# Altium footprint library custom_components.PcbLib: 30 footprints (part 2 of 2)
Each footprint in its own frame and in the unit in brackets; x right, y up, seen from the top. Pads: shape width x height; smd on the part's side, far side on the other; paste and mask are expansions set on the pad; w line width, h text height; cw(c..) or ccw(c..) is an arc to the next point about the centre after c.
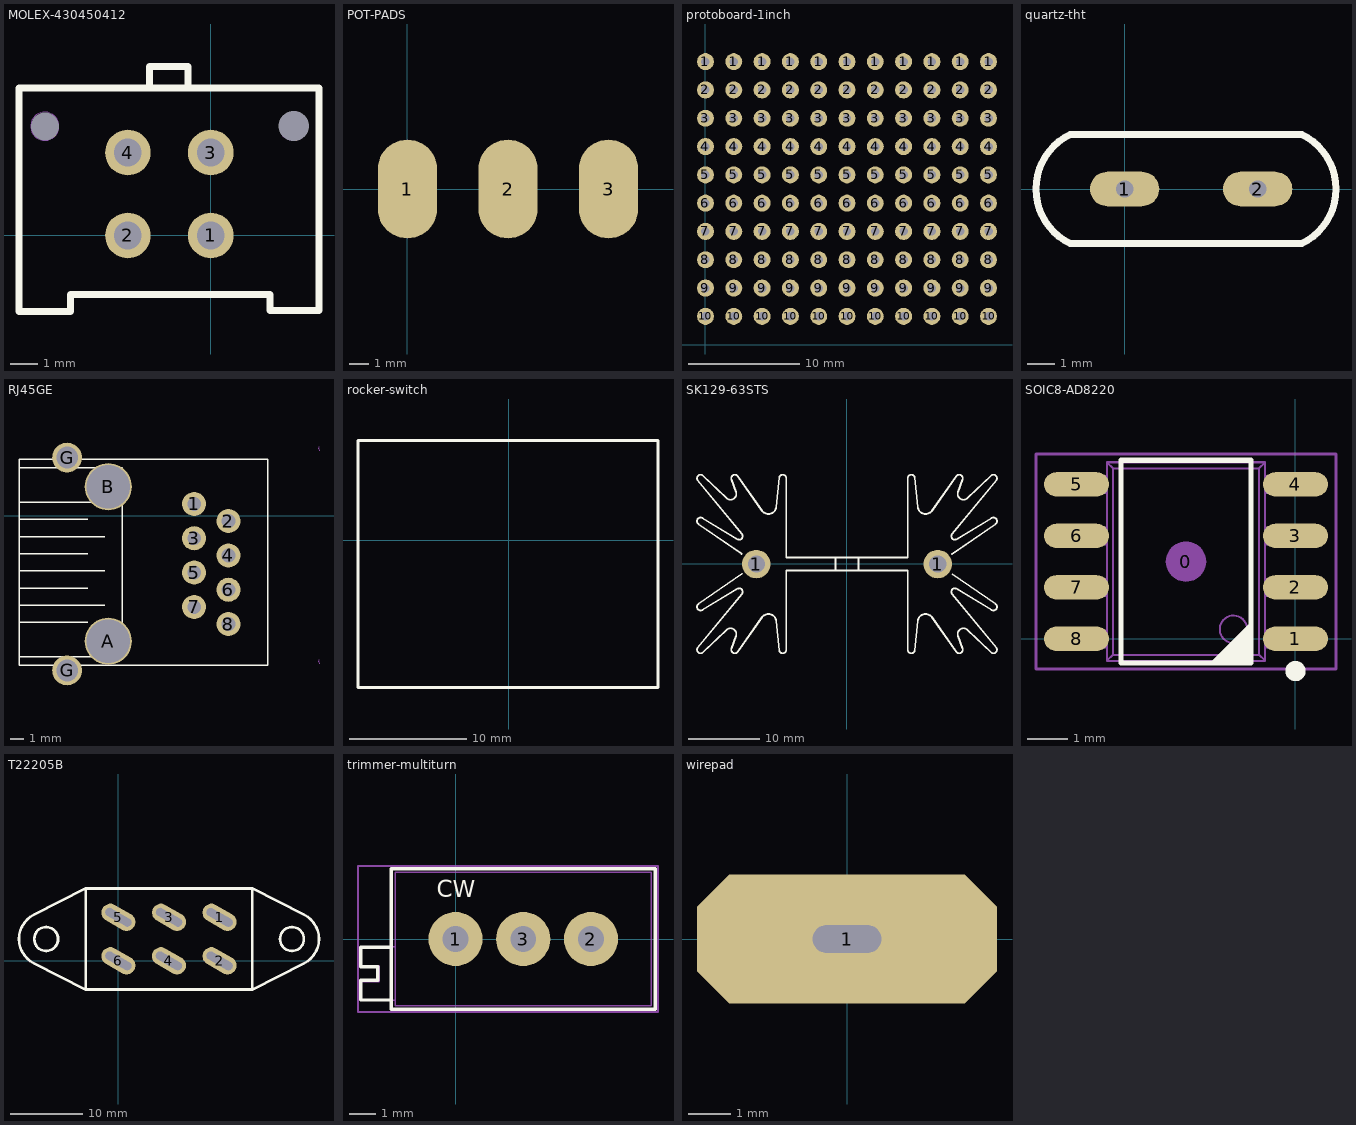
[diagram p1: the footprints below, top view; thin cyan lines are the x and y axes]

## MOLEX-430450412 [mil]
pads (6):
  round 65 hole 39.37: 1(0,0) 2(-118,0) 3(0,118) 4(-118,118)
  round 0 hole 39.37 unplated: NC(-236,155)
  round 0 hole 42.91 unplated: NC(118,156)
Top Overlay:
  lines w10: -200,-85 -200,-108 -249.12,-108 -273,-108 -273,210 154,210 154,-107 113.64,-107 84,-107 84,-84 -200,-84 ; -87.14,210 -87.14,240.26 -32.34,240.26 -32.34,210
Mechanical 1:
  circle w0.5: c-0.15,118.43 r20.08
  circle w0.5: c-0.15,0.32 r20.08
  circle w0.5: c-118.26,0.32 r20.08
  circle w0.5: c117.96,155.43 r20.08
  circle w0.5: c-118.26,118.43 r20.08
  circle w0.5: c-236.37,155.43 r20.08
3D body "430450412.stp": height 392.88, standoff -122.47, extent -258.79,-97.29 140.81,247.98

## PCBComponent_1 [mil]

## POT-PADS [mm]
pads (3):
  oval 3x5 smd: 1(0,0) 2(5.08,0) 3(10.16,0)

## protoboard-1inch [mil]
pads (110):
  round 60 hole 30: 1(0,1000) 1(100,1000) 1(200,1000) 1(300,1000) 1(400,1000) 1(500,1000) 1(600,1000) 1(700,1000) 1(800,1000) 1(900,1000) 1(1000,1000) 2(0,900) 2(100,900) 2(200,900) 2(300,900) 2(400,900) 2(500,900) 2(600,900) 2(700,900) 2(800,900) 2(900,900) 2(1000,900) 3(0,800) 3(100,800) 3(200,800) 3(300,800) 3(400,800) 3(500,800) 3(600,800) 3(700,800) 3(800,800) 3(900,800) 3(1000,800) 4(0,700) 4(100,700) 4(200,700) 4(300,700) 4(400,700) 4(500,700) 4(600,700) 4(700,700) 4(800,700) 4(900,700) 4(1000,700) 5(0,600) 5(100,600) 5(200,600) 5(300,600) 5(400,600) 5(500,600) 5(600,600) 5(700,600) 5(800,600) 5(900,600) 5(1000,600) 6(0,500) 6(100,500) 6(200,500) 6(300,500) 6(400,500) 6(500,500) 6(600,500) 6(700,500) 6(800,500) 6(900,500) 6(1000,500) 7(0,400) 7(100,400) 7(200,400) 7(300,400) 7(400,400) 7(500,400) 7(600,400) 7(700,400) 7(800,400) 7(900,400) 7(1000,400) 8(0,300) 8(100,300) 8(200,300) 8(300,300) 8(400,300) 8(500,300) 8(600,300) 8(700,300) 8(800,300) 8(900,300) 8(1000,300) 9(0,200) 9(100,200) 9(200,200) 9(300,200) 9(400,200) 9(500,200) 9(600,200) 9(700,200) 9(800,200) 9(900,200) 9(1000,200) 10(0,100) 10(100,100) 10(200,100) 10(300,100) 10(400,100) 10(500,100) 10(600,100) 10(700,100) 10(800,100) 10(900,100) 10(1000,100)

## quartz-tht [mm]
pads (2):
  oval 2.54x1.27 hole 0.635: 1(0,0) 2(4.88,0)
Top Overlay:
  lines w0.254: -2,-2 cw(c-1.025,0) -2,2 6.5,2 cw(c5.525,0) 6.5,-2 -2,-2
3D body "quartz.stp": height 3.67, standoff 0.06, extent -3.42,-2.325 7.92,2.325

## RJ45GE [mil]
pads (12):
  round 70 hole 40: 1(859,34) 2(959,-16) 3(859,-66) 4(959,-116) 5(859,-166) 6(959,-216) 7(859,-266) 8(959,-316)
  round 137.8 hole 127.95 unplated: A(609,-366) B(609,84)
  round 86.61 hole 62.99: G(489,-451) G(489,169)
Top Overlay:
  lines w4: 349,-411 599,-411 649,-411 649,139 349,139 ; 349,-311 549,-311 ; 349,-261 599,-261 ; 349,-211 549,-211 ; 349,-161 599,-161 ; 349,-111 549,-111 ; 349,-61 599,-61 ; 349,-11 549,-11 ; 349,39 599,39 ; 899,164 1074,164 ; 1074,-236 1074,164 ; 1074,164 349,164 349,-436 1074,-436 1074,164
Mechanical 4:
  drawing of 396 lines, arcs and shapes, not listed
3D body "c555514101b3d.STEP": height 533.5, standoff -170, extent 281.5,-493 1016.5,207

## rocker-switch [mil]
Top Overlay:
  lines w10: -506,-494 500,-494 500,334 -506,334 -506,-491
3D body "46956.STEP": height 1092.05, standoff 89.05, extent -503.49,-1055 499.51,335.01

## SK129-63STS [mm]
pads (2):
  round 4 hole 2.4: 1(-12.624,-0.013) 1(12.776,-0.013)
Top Overlay:
  lines w0.254: -14.679,1.413 -20.714,5.586 cw(c-20.43,5.997) -20.171,6.425 -15.289,3.47 ccw(c-15.03,3.897) -14.645,4.216 -20.815,11.679 cw(c-20.43,11.997) -20.086,12.36 -16.781,9.218 ccw(c-16.23,9.797) -15.476,10.065 -16.101,11.831 cw(c-15.63,11.997) -15.221,12.285 -11.83,7.465 ccw(c-10.93,8.097) -9.836,7.987 -9.428,12.047 cw(c-8.93,11.997) -8.43,11.997 -8.43,0.897 8.57,0.897 8.57,11.997 cw(c9.07,11.997) 9.567,12.047 9.975,7.987 ccw(c11.07,8.097) 11.97,7.465 15.361,12.285 cw(c15.77,11.997) 16.241,11.831 15.616,10.065 ccw(c16.37,9.797) 16.921,9.218 20.225,12.36 cw(c20.57,11.997) 20.955,11.679 14.785,4.216 ccw(c15.17,3.897) 15.429,3.47 20.311,6.425 cw(c20.57,5.997) 20.854,5.586 14.729,1.352 ; -14.623,-1.38 -20.714,-5.591 ccw(c-20.43,-6.003) -20.171,-6.43 -15.289,-3.475 cw(c-15.03,-3.903) -14.645,-4.221 -20.815,-11.684 ccw(c-20.43,-12.003) -20.086,-12.365 -16.781,-9.223 cw(c-16.23,-9.803) -15.476,-10.07 -16.101,-11.836 ccw(c-15.63,-12.003) -15.221,-12.29 -11.83,-7.47 cw(c-10.93,-8.103) -9.836,-7.993 -9.428,-12.053 ccw(c-8.93,-12.003) -8.43,-12.003 -8.43,-0.903 8.57,-0.903 8.57,-12.003 ccw(c9.07,-12.003) 9.567,-12.053 9.975,-7.993 cw(c11.07,-8.103) 11.97,-7.47 15.361,-12.29 ccw(c15.77,-12.003) 16.241,-11.836 15.616,-10.07 cw(c16.37,-9.803) 16.921,-9.223 20.225,-12.365 ccw(c20.57,-12.003) 20.955,-11.684 14.785,-4.221 cw(c15.17,-3.903) 15.429,-3.475 20.311,-6.43 ccw(c20.57,-6.003) 20.854,-5.591 14.842,-1.434 ; -1.53,-0.903 -1.53,0.897 ; 1.67,-0.903 1.67,0.897
3D body "sk_129_63.5_sts.stp": height 63.7, standoff -4.3, extent -20.928,-12.433 21.07,12.567

## SOIC8-AD8220 [mm]
pads (9):
  round 1 on Mech15: 0(-2.7,1.905)
  oval 1.6x0.6 smd: 1(0,0) 2(0,1.27) 3(0,2.54) 4(0,3.81) 5(-5.4,3.81) 6(-5.4,2.54) 7(-5.4,1.27) 8(-5.4,0)
Top Overlay:
  circle w0.25: c0,-0.795 r0.125
  region: -1.1,-0.595 -2.1,-0.595 -1.1,0.405
  lines w0.127: -4.3,-0.595 -1.1,-0.595 -1.1,4.405 -4.3,4.405 -4.3,-0.595
Mechanical 13:
  circle w0.05: c-1.53,0.235 r0.338
  lines w0.05: -5.331,-0.21 -5.331,0.21 ; -5.331,1.06 -5.331,1.48 ; -5.331,2.33 -5.331,2.75 ; -5.331,3.6 -5.331,4.02 ; -5.243,-0.21 -5.243,0.21 ; -5.243,1.06 -5.243,1.48 ; -5.243,2.33 -5.243,2.75 ; -5.243,3.6 -5.243,4.02 ; -5.103,-0.21 -5.103,0.21 ; -5.103,1.06 -5.103,1.48 ; -5.103,2.33 -5.103,2.75 ; -5.103,3.6 -5.103,4.02 ; -4.813,-0.21 -4.813,0.21 ; -4.813,1.06 -4.813,1.48 ; -4.813,2.33 -4.813,2.75 ; -4.813,3.6 -4.813,4.02 ; -4.65,-0.21 -5.7,-0.21 -5.7,0.21 -4.65,0.21 ; -4.65,1.06 -5.7,1.06 -5.7,1.48 -4.65,1.48 ; -4.65,2.33 -5.7,2.33 -5.7,2.75 -4.65,2.75 ; -4.65,3.6 -5.7,3.6 -5.7,4.02 -4.65,4.02 ; -0.75,-0.21 0.3,-0.21 0.3,0.21 -0.75,0.21 ; -0.75,1.06 0.3,1.06 0.3,1.48 -0.75,1.48 ; -0.75,2.33 0.3,2.33 0.3,2.75 -0.75,2.75 ; -0.75,3.6 0.3,3.6 0.3,4.02 -0.75,4.02 ; -0.587,-0.21 -0.587,0.21 ; -0.587,1.06 -0.587,1.48 ; -0.587,2.33 -0.587,2.75 ; -0.587,3.6 -0.587,4.02 ; -0.297,-0.21 -0.297,0.21 ; -0.297,1.06 -0.297,1.48 ; -0.297,2.33 -0.297,2.75 ; -0.297,3.6 -0.297,4.02 ; -0.157,-0.21 -0.157,0.21 ; -0.157,1.06 -0.157,1.48 ; -0.157,2.33 -0.157,2.75 ; -0.157,3.6 -0.157,4.02 ; -0.069,-0.21 -0.069,0.21 ; -0.069,1.06 -0.069,1.48 ; -0.069,2.33 -0.069,2.75 ; -0.069,3.6 -0.069,4.02 ; -4.65,-0.545 -0.75,-0.545 ; -4.65,-0.545 -4.501,-0.396 ; -4.65,-0.545 -4.65,4.355 ; -4.65,4.355 -4.501,4.206 ; -4.65,4.355 -0.75,4.355 ; -4.501,-0.396 -0.899,-0.396 ; -4.501,-0.396 -4.501,4.206 ; -4.501,4.206 -0.899,4.206 ; -0.899,-0.396 -0.899,4.206 ; -0.899,-0.396 -0.75,-0.545 ; -0.899,4.206 -0.75,4.355 ; -0.75,-0.545 -0.75,4.355
Mechanical 15:
  lines w0.076: -6.4,-0.745 1,-0.745 1,4.555 -6.4,4.555 -6.4,-0.745
3D body "SOIC-8.STEP": height 1.75, standoff 0, extent -5.7,-0.545 0.3,4.355

## star-ground-plane [mil]

## T22205B [mil]
pads (6):
  oval 200x98.43 hole 45 slot 157.48 at 150 deg rot 150: 1(551.44,237) 2(551.44,0) 3(276,237.39) 4(275.61,0) 5(0,237.39) 6(0,0)
Top Overlay:
  drawing of 232 lines, arcs and shapes, not listed
3D body "t22205b.step": height 516.85, standoff -191.81, extent -541.93,-156.61 1091.93,394.61

## T22205BAAE [mil]

## trimmer-multiturn [mil]
pads (3):
  round 80 hole 38: 1(0,0) 2(200,0) 3(100,0)
Top Overlay:
  lines w5: -95,-90 -140,-90 -140,-61 -115,-61 -115,-41 -140,-41 -140,-12 -95,-12 ; -95,-104 -95,104 295,104 295,-104 -95,-104
  text "CW" at -27.56,61.69 h25
Mechanical 13:
  lines w1.97: -88.98,-90.55 -140.16,-90.55 -140.16,-62.99 -112.6,-62.99 -112.6,-39.37 -140.16,-39.37 -140.16,-11.81 -88.98,-11.81 ; -88.98,-98.43 288.98,-98.43 288.98,98.43 -88.98,98.43 -88.98,-98.43
Mechanical 15:
  lines w3: -144,-108 299,-108 299,108 -144,108 -144,-108
3D body "Trimmer PV36 Side Adjust.STEP": height 393.7, standoff -110.24, extent -140.16,-98.42 288.98,98.43

## wirepad [mm]
pads (1):
  oct 7x3 hole 0.65 slot 1.6 at 0 deg paste+0.051: 1(0,0)